# EAGLE library part RESISTOR_NETWORK_4IND (library Icotech_Eagle_Library)
BOURNS RESISTOR NETWORK
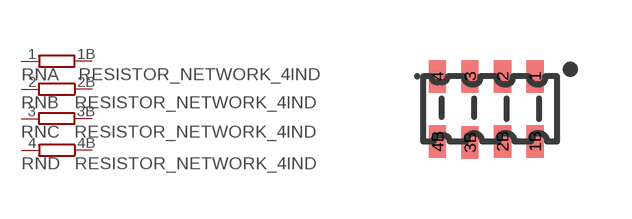
[diagram p6: symbol with the pads of CAT16-F4; footprint CAT16-F4]

Designator prefix RN; gates A=R1NV0 B=R1NVXX C=R1NVXX D=R1NVXX

## RESISTOR_NETWORK_4IND  [CAT16-F4]
1  A:1  pas
1B  A:2  pas
2  B:1  pas
2B  B:2  pas
3  C:1  pas
3B  C:2  pas
4  D:1  pas
4B  D:2  pas

## Footprint CAT16-F4 (pad centres in mm)
BOURNS RESISTOR NETWORK
smd 0.432 x 0.813: 1 1.168,0.813; 1B 1.168,-0.813; 2 0.356,0.813; 2B 0.356,-0.813; 3 -0.457,0.813; 3B -0.457,-0.838; 4 -1.27,0.813; 4B -1.27,-0.813